# Altium footprint library CYT2BL3_硬件_核心板封装库.PcbLib: 15 footprints
Each footprint in its own frame and in the unit in brackets; x right, y up, seen from the top. Pads: shape width x height; smd on the part's side, far side on the other; paste and mask are expansions set on the pad; w line width, h text height; cw(c..) or ccw(c..) is an arc to the next point about the centre after c.
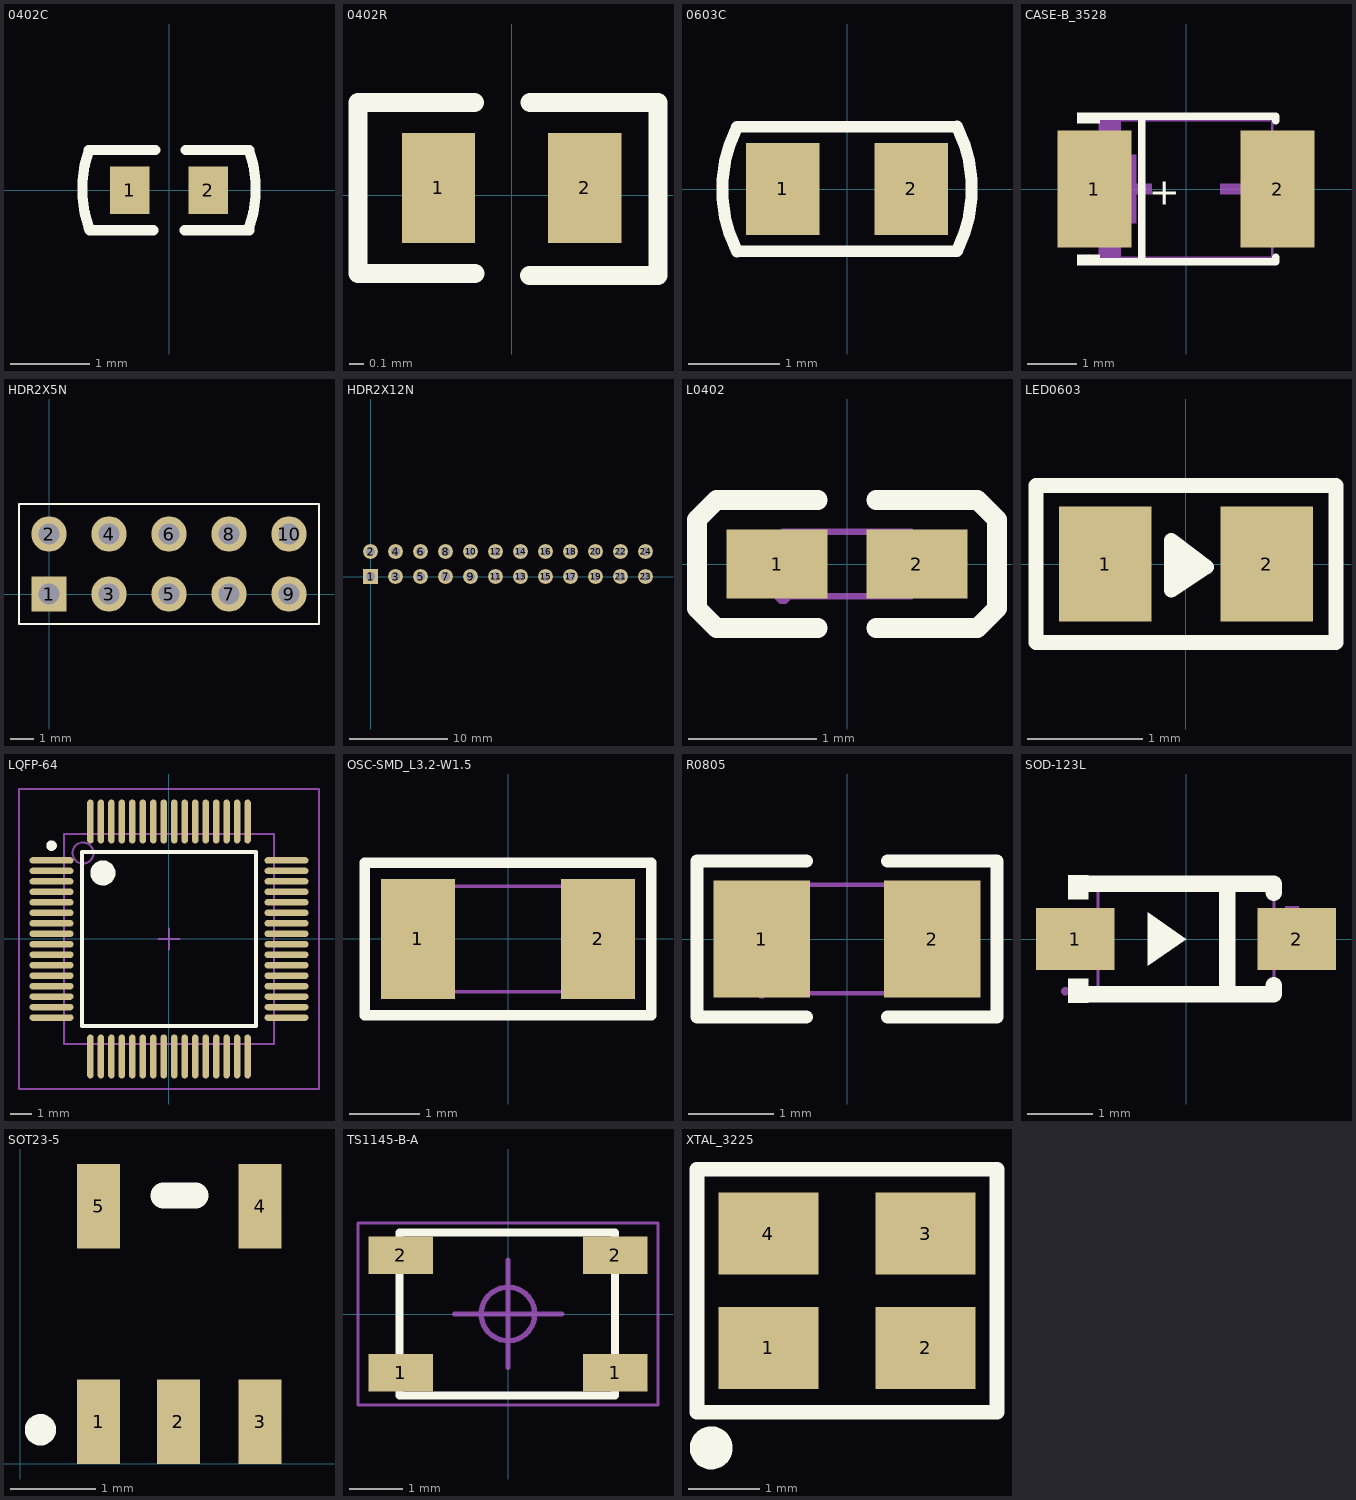
[diagram p0: the footprints below, top view; thin cyan lines are the x and y axes]

## 0402C [mm]
pads (2):
  rect 0.5x0.6 smd: 1(-0.5,0) 2(0.5,0)
Top Overlay:
  lines w0.13: -1.016,-0.477 cw(c0.401,0.015) -1.016,0.508 -0.17,0.508 ; -1.006,-0.508 -0.2,-0.508 ; 0.2,-0.508 1.016,-0.508 ; 0.21,0.508 1.016,0.508 cw(c-0.401,0.015) 1.016,-0.477
3D body "User Library-CAPC1005X06.STEP": height 0.6, standoff 0, extent -0.5,-0.246 0.5,0.254

## 0402R [mm]
pads (2):
  rect 0.5x0.75 smd: 1(-0.5,0.05) 2(0.5,0.05)
Top Overlay:
  lines w0.13: -0.254,0.635 -0.6,0.635 -1.05,0.635 -1.05,-0.535 -0.25,-0.535 ; 0.121,-0.55 1,-0.55 1,0.635 0.127,0.635
3D body "User Library-0402R.STEP": height 0.34, standoff 0, extent -0.52,-0.254 0.52,0.346

## 0603C [mm]
pads (2):
  rect 0.8x1 smd: 1(-0.7,0) 2(0.7,0)
Top Overlay:
  lines w0.13: -1.2,-0.682 cw(c0.138,-0.004) -1.2,0.675 ; -1.2,-0.68 1.2,-0.68 ; -1.2,0.68 1.2,0.68 ; 1.2,-0.675 ccw(c-0.138,0.004) 1.2,0.682
3D body "User Library-Chip Cap_MLCC_0603 (1608).STEP": height 0.5, standoff 0, extent -0.8,-0.381 0.8,0.419

## CASE-B_3528 [mm]
pads (2):
  rect 1.506x2.376 smd paste+0.051: 1(-1.861,0) 2(1.861,0)
Top Overlay:
  region: -1.75,-1.552 -1.75,-1.34 -2.207,-1.34 -2.207,-1.552
  region: -1.75,1.552 -1.75,1.34 -2.207,1.34 -2.207,1.552
  lines w0.152: -1.826,-1.476 1.826,-1.476 1.826,-1.391 ; -1.826,1.476 1.826,1.476 1.826,1.391 ; -0.904,-1.476 -0.904,1.476
  text "+" at -0.762,-0.317 h0.56
Mechanical 2:
  region: 1.54,0.105 1.54,-0.105 0.7,-0.105 0.7,0.105
  region: -1.54,0.105 -1.54,-0.105 -0.7,-0.105 -0.7,0.105
  region: -1.225,0.7 -1.225,-0.7 -1.015,-0.7 -1.015,0.7
  region: -1.75,1.4 -1.75,0.7 -1.33,0.7 -1.33,1.4
  region: -1.75,-1.4 -1.75,-0.7 -1.33,-0.7 -1.33,-1.4
Mechanical 6:
  lines w0.051: -1.75,-1.4 1.75,-1.4 1.75,1.4 -1.75,1.4 -1.75,-1.4
Mechanical 8:
  region: -1.92,-1.4 -1.92,-1.425 -1.955,-1.46 -2.005,-1.46 -2.04,-1.425 -2.04,-1.4 -2.04,-1.375 -2.005,-1.34 -1.955,-1.34 -1.92,-1.375
Mechanical 9:
  region: 1.98,1.1 1.98,-1.1 1.28,-1.1 1.28,1.1
  region: -1.98,1.1 -1.98,-1.1 -1.28,-1.1 -1.28,1.1

## HDR2X5N [mm] "Connector; Header; 5x2 Position"
pads (10):
  rect 1.5x1.5 hole 0.9: 1(0,0)
  round 1.5 hole 0.9: 2(0,2.54) 3(2.54,0) 4(2.54,2.54) 5(5.08,0) 6(5.08,2.54) 7(7.62,0) 8(7.62,2.54) 9(10.16,0) 10(10.16,2.54)
Top Overlay:
  lines w0.1: -1.27,-1.27 11.43,-1.27 11.43,3.81 -1.27,3.81 -1.27,-1.27

## HDR2X12N [mm] "Connector; Header; 12x2 Position"
pads (24):
  rect 1.5x1.5 hole 0.9: 1(0,0)
  round 1.5 hole 0.9: 2(0,2.54) 3(2.54,0) 4(2.54,2.54) 5(5.08,0) 6(5.08,2.54) 7(7.62,0) 8(7.62,2.54) 9(10.16,0) 10(10.16,2.54) 11(12.7,0) 12(12.7,2.54) 13(15.24,0) 14(15.24,2.54) 15(17.78,0) 16(17.78,2.54) 17(20.32,0) 18(20.32,2.54) 19(22.86,0) 20(22.86,2.54) 21(25.4,0) 22(25.4,2.54) 23(27.94,0) 24(27.94,2.54)
Bottom Overlay:
  lines w0.2: -1.27,-1.27 -1.27,3.81 29.21,3.81 29.21,-1.27 -1.27,-1.27

## L0402 [mm]
pads (2):
  rect 0.79x0.54 smd paste-100 mask+0.051: 1(-0.545,0) 2(0.545,0)
Top Overlay:
  lines w0.152: -0.226,-0.499 -1.016,-0.499 -1.169,-0.346 -1.169,0.346 -1.016,0.499 -0.226,0.499 ; 0.226,-0.499 1.016,-0.499 1.169,-0.346 1.169,0.346 1.016,0.499 0.226,0.499
Top Paste:
  region: 0.135,-0.086 0.135,0.086 0.404,0.27 0.9,0.27 0.94,0.23 0.94,-0.23 0.9,-0.27 0.404,-0.27
  region: -0.135,-0.086 -0.135,0.086 -0.404,0.27 -0.9,0.27 -0.94,0.23 -0.94,-0.23 -0.9,-0.27 -0.404,-0.27
Mechanical 6:
  lines w0.051: -0.5,-0.25 -0.5,0.25 0.5,0.25 0.5,-0.25 -0.5,-0.25
Mechanical 8:
  region: -0.44,-0.25 -0.44,-0.275 -0.475,-0.31 -0.525,-0.31 -0.56,-0.275 -0.56,-0.25 -0.56,-0.225 -0.525,-0.19 -0.475,-0.19 -0.44,-0.225
Mechanical 9:
  region: -0.5,-0.25 -0.5,0.25 -0.25,0.25 -0.25,-0.25
  region: 0.5,-0.25 0.5,0.25 0.25,0.25 0.25,-0.25

## LED0603 [mm]
pads (2):
  rect 0.8x1 smd: 1(-0.7,0) 2(0.7,0)
Top Overlay:
  lines w0.127: -0.102,0.184 -0.051,-0.025 0.178,-0.025 ; 0.042,0.076 -0.127,-0.229 ; -0.127,-0.229 -0.127,0.203 0.178,-0.025 ; -0.127,-0.229 0.178,-0.025
  lines w0.13: -1.3,-0.68 1.3,-0.68 1.3,0.68 -1.3,0.68 -1.3,-0.68
3D body "User Library-Wurth Elektronik WL-SMCW 0603 (1608) LED Base (Separate Lens).STEP": height -0.4, standoff -1.04, extent -0.8,-0.4 0.8,0.4

## LQFP-64 [mm]
pads (64):
  oval 2.1x0.3 smd: 1(-5.6,3.75) 2(-5.6,3.25) 3(-5.6,2.75) 4(-5.6,2.25) 5(-5.6,1.75) 6(-5.6,1.25) 7(-5.6,0.75) 8(-5.6,0.25) 9(-5.6,-0.25) 10(-5.6,-0.75) 11(-5.6,-1.25) 12(-5.6,-1.75) 13(-5.6,-2.25) 14(-5.6,-2.75) 15(-5.6,-3.25) 16(-5.6,-3.75) 33(5.6,-3.75) 34(5.6,-3.25) 35(5.6,-2.75) 36(5.6,-2.25) 37(5.6,-1.75) 38(5.6,-1.25) 39(5.6,-0.75) 40(5.6,-0.25) 41(5.6,0.25) 42(5.6,0.75) 43(5.6,1.25) 44(5.6,1.75) 45(5.6,2.25) 46(5.6,2.75) 47(5.6,3.25) 48(5.6,3.75)
  oval 0.3x2.1 smd: 17(-3.75,-5.6) 18(-3.25,-5.6) 19(-2.75,-5.6) 20(-2.25,-5.6) 21(-1.75,-5.6) 22(-1.25,-5.6) 23(-0.75,-5.6) 24(-0.25,-5.6) 25(0.25,-5.6) 26(0.75,-5.6) 27(1.25,-5.6) 28(1.75,-5.6) 29(2.25,-5.6) 30(2.75,-5.6) 31(3.25,-5.6) 32(3.75,-5.6) 49(3.75,5.6) 50(3.25,5.6) 51(2.75,5.6) 52(2.25,5.6) 53(1.75,5.6) 54(1.25,5.6) 55(0.75,5.6) 56(0.25,5.6) 57(-0.25,5.6) 58(-0.75,5.6) 59(-1.25,5.6) 60(-1.75,5.6) 61(-2.25,5.6) 62(-2.75,5.6) 63(-3.25,5.6) 64(-3.75,5.6)
Top Overlay:
  circle w0.25: c-5.6,4.45 r0.125
  circle w0.6: c-3.15,3.15 r0.3
  lines w0.2: -4.15,-4.15 -4.15,4.15 4.15,4.15 4.15,-4.15 -4.15,-4.15
Mechanical 13:
  circle w0.1: c-4.1,4.1 r0.5
  lines w0.1: -5,-5 -5,5 5,5 5,-5 -5,-5
Mechanical 15:
  lines w0.1: -0.5,0 0.5,0 ; 0,-0.5 0,0.5 ; -7.15,-7.15 -7.15,7.15 7.15,7.15 7.15,-7.15 -7.15,-7.15
3D body: height 1.6, standoff 0, extent -5,-5 5,5

## OSC-SMD_L3.2-W1.5 [mm]
pads (2):
  rect 1.05x1.7 smd: 1(-1.275,0) 2(1.275,0)
Top Overlay:
  lines w0.152: -2.029,-1.079 2.029,-1.079 2.029,1.079 -2.029,1.079 -2.029,-1.079
Mechanical 15:
  region: 0.85,-0.75 0.85,0.75 1.5,0.75 1.5,-0.75
  region: -0.85,-0.75 -0.85,0.75 -1.5,0.75 -1.5,-0.75
  region: -1.54,-0.75 -1.541,-0.726 -1.576,-0.693 -1.624,-0.693 -1.659,-0.726 -1.66,-0.75 -1.659,-0.774 -1.624,-0.807 -1.576,-0.807 -1.541,-0.774
  lines w0.051: -1.6,-0.75 1.6,-0.75 1.6,0.75 -1.6,0.75 -1.6,-0.75

## R0805 [mm]
pads (2):
  rect 1.133x1.377 smd paste-100 mask+0.051: 1(-1,0) 2(1,0)
Top Overlay:
  lines w0.152: -0.476,-0.917 -1.761,-0.917 -1.761,0.917 -0.476,0.917 ; 0.476,-0.917 1.761,-0.917 1.761,0.917 0.476,0.917
Top Paste:
  region: 0.45,-0.64 0.45,-0.22 0.895,-0.22 0.895,0.23 0.455,0.23 0.45,0.64 0.5,0.69 1.65,0.69 1.7,0.64 1.7,-0.64 1.65,-0.69 0.5,-0.69
  region: -1.7,-0.64 -1.7,0.64 -1.65,0.69 -0.5,0.69 -0.45,0.64 -0.445,0.23 -0.895,0.23 -0.895,-0.22 -0.455,-0.22 -0.45,-0.64 -0.5,-0.69 -1.65,-0.69
Mechanical 6:
  lines w0.051: -1,-0.637 1,-0.637 1,0.637 -1,0.637 -1,-0.637
Mechanical 8:
  region: -0.94,-0.638 -0.94,-0.662 -0.975,-0.698 -1.025,-0.698 -1.06,-0.662 -1.06,-0.638 -1.06,-0.613 -1.025,-0.578 -0.975,-0.578 -0.94,-0.613
Mechanical 9:
  region: 1,-0.637 1,0.637 0.6,0.637 0.6,-0.637
  region: -1,-0.637 -1,0.637 -0.6,0.637 -0.6,-0.637

## SOD-123L [mm]
pads (2):
  rect 1.2x0.95 smd paste+0.051: 1(-1.7,0) 2(1.7,0)
Top Overlay:
  region: -0.584,0.406 -0.584,-0.406 0,0
  region: -1.502,0.977 -1.502,0.607 -1.806,0.607 -1.806,0.977
  region: -1.502,-0.977 -1.502,-0.607 -1.806,-0.607 -1.806,-0.977
  lines w0.254: -1.644,0.849 -1.643,0.85 -1.346,0.85 1.346,0.85 1.346,0.706 ; -1.639,-0.849 -1.638,-0.85 -1.346,-0.85 1.346,-0.85 1.346,-0.706 ; 0.635,-0.762 0.635,0.762
Mechanical 2:
  region: 1.19,0.212 2.032,0.212 2.032,0.005 1.189,0.005
  region: 1.525,-0.338 1.525,0.504 1.732,0.504 1.732,-0.339
  region: -2.042,0.124 -1.2,0.124 -1.2,-0.083 -2.042,-0.083
Mechanical 6:
  lines w0.051: -1.35,-0.8 -1.35,0.8 1.35,0.8 1.35,-0.8 -1.35,-0.8
Mechanical 7:
  region: -1.51,-0.275 -1.51,0.275 -1.34,0.275 -1.34,-0.275
  region: 1.34,-0.275 1.34,0.275 1.51,0.275 1.51,-0.275
Mechanical 8:
  region: -1.79,-0.8 -1.79,-0.825 -1.825,-0.86 -1.875,-0.86 -1.91,-0.825 -1.91,-0.8 -1.91,-0.775 -1.875,-0.74 -1.825,-0.74 -1.79,-0.775
Mechanical 9:
  region: -1.85,-0.275 -1.85,0.275 -1.5,0.275 -1.5,-0.275
  region: 1.5,-0.275 1.5,0.275 1.85,0.275 1.85,-0.275

## SOT23-5 [mm]
pads (5):
  rect 0.508x1 smd: 1(0.924,0.498) 2(1.864,0.498) 3(2.829,0.498) 4(2.829,3.038) 5(0.924,3.038)
Top Overlay:
  circle w0.254: c0.237,0.402 r0.058
  lines w0.305: 1.686,3.165 2.067,3.165
3D body "SW3DPS-SOT-23-5-DEFAULT.STEP": height 1.05, standoff -0.05, extent 0.364,0.498 3.364,2.998

## TS1145-B-A [mm] "3x4x2.5 4脚贴片按键 包脚 160gf"
height 4.32
pads (4):
  rect 1.2x0.7 smd: 1(-2,-1.1) 1(2,-1.1) 2(-2,1.1) 2(2,1.1)
Top Overlay:
  lines w0.152: -2.025,-1.524 2,-1.524 2,1.524 -2.025,1.524 -2.025,-1.524
Top Designator:
  text ".Designator" at -1.961,-0.196 h1
Top Component Outline:
  lines w0.05: -2.8,-1.7 -2.8,1.7 2.8,1.7 2.8,-1.7 -2.8,-1.7
Top Component Center:
  circle w0.1: c0,0 r0.5
  lines w0.1: -1,0 1,0 ; 0,-1 0,1
3D body "User Library-PTS810.STEP": height 2.5, standoff 0, extent -2.301,-1.6 2.299,1.6

## XTAL_3225 [mm]
pads (4):
  rect 1.4x1.15 smd: 1(1.736,2) 2(3.936,2) 3(3.936,3.6) 4(1.736,3.6)
Top Overlay:
  circle w0.3: c0.936,0.6 r0.15
  lines w0.203: 0.736,1.1 4.936,1.1 4.936,4.5 0.736,4.5 0.736,1.1
3D body "User Library-3225-1.STEP": height 0.61, standoff 0, extent 1.236,1.55 4.436,4.05